# Altium footprint library PcbLib1.PcbLib: 34 footprints (part 3 of 3)
Each footprint in its own frame and in the unit in brackets; x right, y up, seen from the top. Pads: shape width x height; smd on the part's side, far side on the other; paste and mask are expansions set on the pad; w line width, h text height; cw(c..) or ccw(c..) is an arc to the next point about the centre after c.
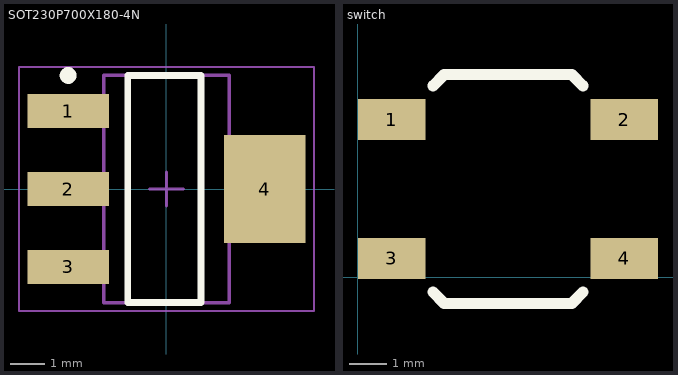
[diagram p2: the footprints below, top view; thin cyan lines are the x and y axes]

## SOT230P700X180-4N [mm] "SOT223, 4-Leads, Body 6.50x7.00mm (avg), Pitch 2.30mm, IPC Medium Density"
height 1.8
pads (4):
  rect 2.4x1 smd: 1(-2.9,2.3) 2(-2.9,0) 3(-2.9,-2.3)
  rect 2.4x3.2 smd: 4(2.9,0)
Top Overlay:
  circle w0.25: c-2.9,3.35 r0.125
  lines w0.2: -1.143,-3.35 -1.143,3.35 1.016,3.35 1.016,-3.35 -1.143,-3.35
Mechanical 13:
  lines w0.1: -1.85,-3.35 -1.85,3.35 1.85,3.35 1.85,-3.35 -1.85,-3.35
Mechanical 15:
  lines w0.05: -4.35,-3.6 -4.35,3.6 4.35,3.6 4.35,-3.6 -4.35,-3.6
  lines w0.1: -0.5,0 0.5,0 ; 0,-0.5 0,0.5
3D body: height 1.8, standoff 0.02, extent -1.85,-3.35 1.85,3.35

## switch [mm]
pads (4):
  rect 1.8x1.1 smd: 1(0.9,4.2) 2(7.1,4.2) 3(0.9,0.5) 4(7.1,0.5)
Top Overlay:
  lines w0.3: 2,-0.4 2.3,-0.7 ; 2,5.1 2.3,5.4 5.7,5.4 ; 6,-0.4 5.7,-0.7 2.3,-0.7 ; 6,5.1 5.7,5.4 ; 2.3,-0.7 2.3,-0.7 ; 5.7,5.4 5.7,5.4